# Altium integrated library Analog Devices Data Converters Digital-to-Analog Converters.IntLib: 2231 symbols (part 175 of 181)
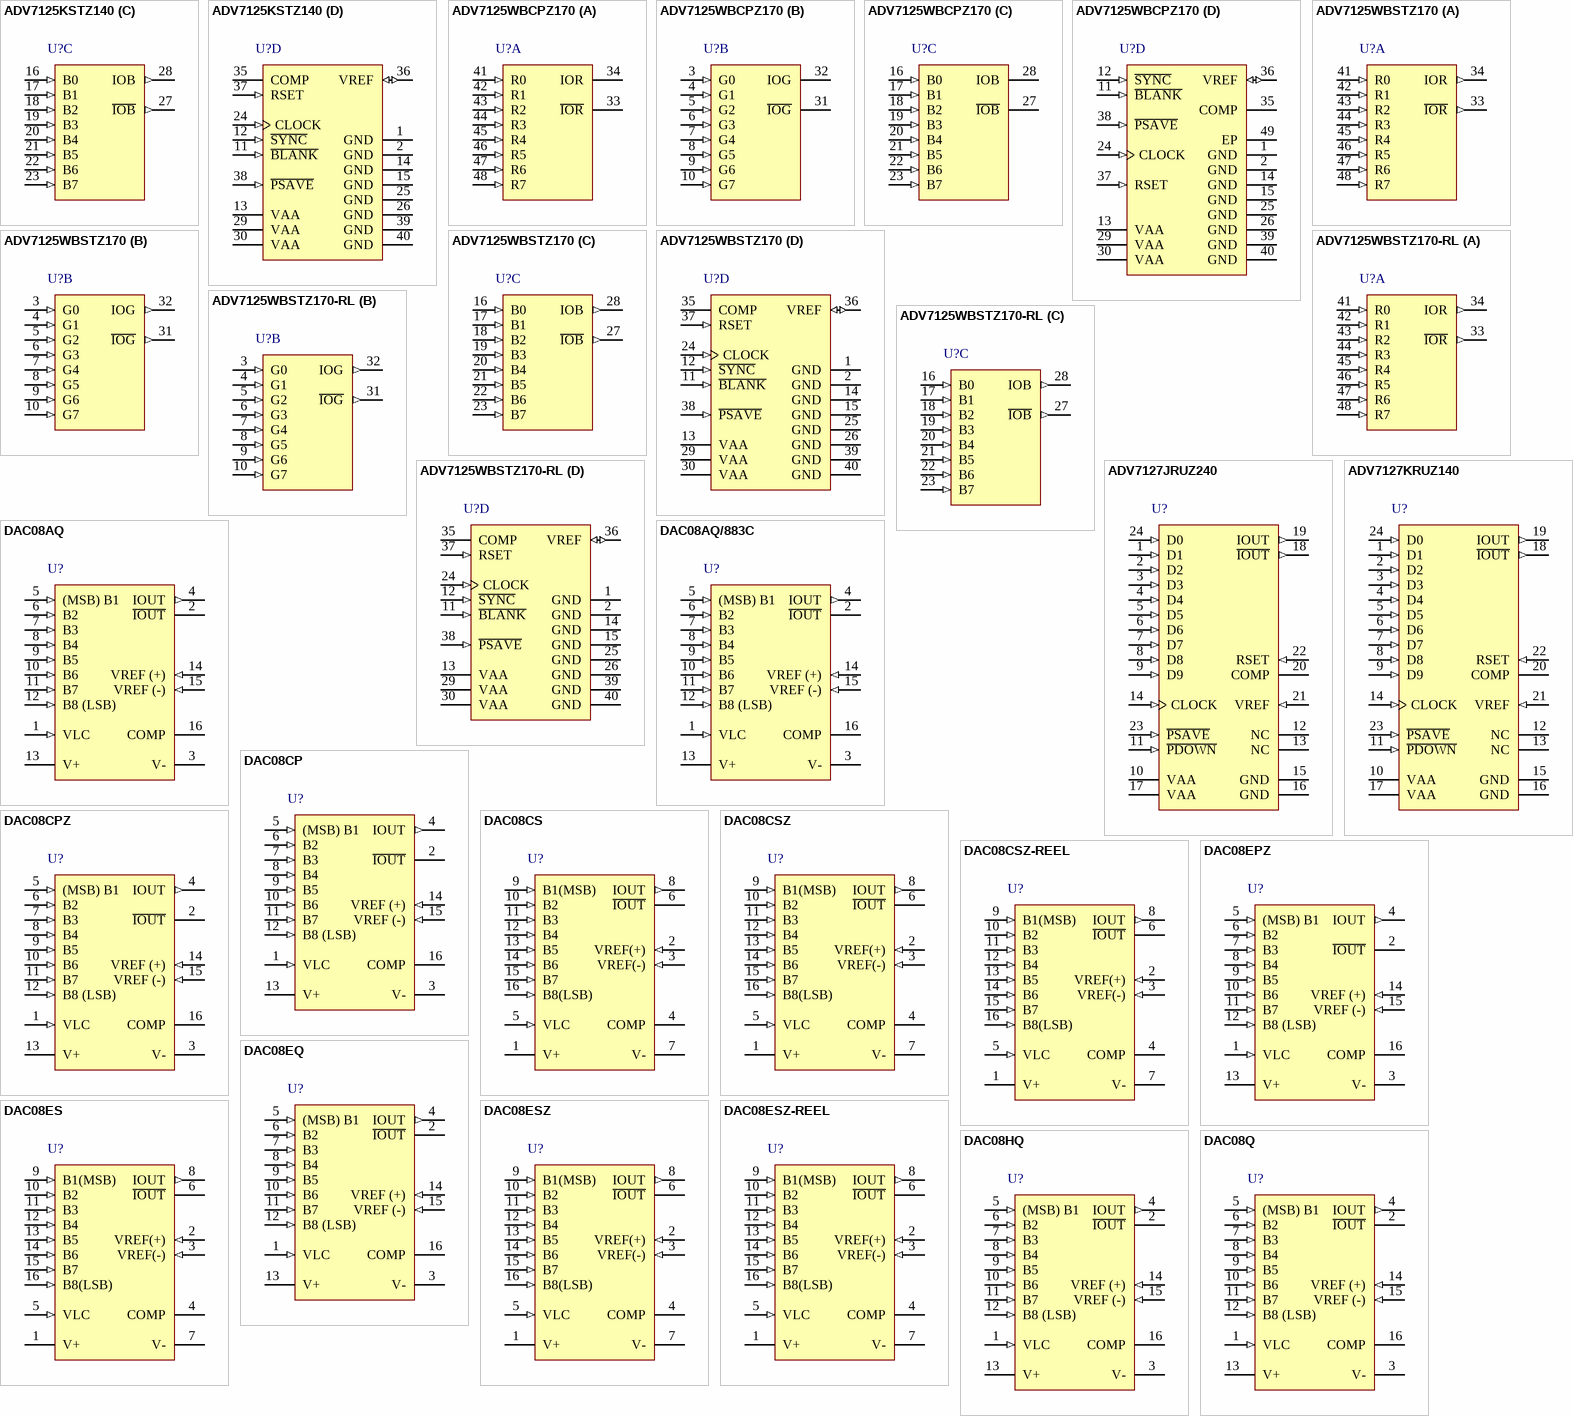
[diagram p288: symbols ADV7125KSTZ140 to DAC08Q]

## ADV7125WBSTZ170-RL
designator U?
3 Channel 8-Bit CMOS High Speed Video Digital-to-Analog Converter, -40 to +85 degC, ST-48, Pb-Free, Reel; Generic Part Number: ADV7125; Manufacturer: Analog Devices; PartNumber: ADV7125WBSTZ170-RL; # DAC Outputs: 3; Max V+: 5.25V; Op Pwr Diss: 485mW; Resolution (Bits): 8; Single Supply: No; DatasheetVersion: Rev.C; PackageVersion: revA; PackageReference: ST-48; PackageDescription: 48-Pin Thin Quad Flat Pack 0.5 mm Pitch; Supplier 1: Mouser; Supplier Part Number 1: N/A; Packing: Reel; RoHS: Y; Mounting Technology: Surface Mount; ComponentLink1Description: Manufacturer URL; ComponentLink1URL: http://www.analog.com/en/index.html; ComponentLink2Description: Datasheet; ComponentLink2URL: http://www.analog.com/static/imported-files/data_sheets/ADV7125.pdf; ComponentLink3Description: Package Specification; ComponentLink3URL: http://www.analog.com/static/imported-files/packages/PKG_PDF/LQFP%28ST%29/ST_48.pdf; ComponentLink4Description: Product URL; ComponentLink4URL: http://www.analog.com/en/digital-to-analog-converters/da-converters/adv7125/products/product.html
footprint ST-48_N (Thin QFP, 48-Leads, Body 7x7mm, Pitch 0.5mm, IPC Medium Density)
footprint ST-48_L (Thin QFP, 48-Leads, Body 7x7mm, Pitch 0.5mm, IPC High Density)
footprint ST-48_M (Thin QFP, 48-Leads, Body 7x7mm, Pitch 0.5mm, IPC Low Density)
part A pins: 33 ~{IOR} (out) "Differential Red, Green, and Blue Current Outputs (High Impedance Current Sources). These RGB video outputs are specified to directly drive RS-343A and RS-170 video levels into a doubly terminated 75 ohm load. If the (See Datasheet)", 34 IOR (out) "Red, Green, and Blue Current Outputs. These high impedance current sources are capable of directly driving a doubly terminated 75 ohm coaxial cable. All three current outputs should have similar output loads whether or not (See Datasheet)", 41 R0 (in) "Red Pixel Data Inputs (TTL Compatible). Pixel data is latched on the rising edge of CLOCK. R0, G0, and B0 are the least significant data bits. Unused pixel data inputs should be connected to either the regular printed (See Datasheet)", 42 R1 (in) "Red Pixel Data Inputs (TTL Compatible). Pixel data is latched on the rising edge of CLOCK. R0, G0, and B0 are the least significant data bits. Unused pixel data inputs should be connected to either the regular printed (See Datasheet)", 43 R2 (in) "Red Pixel Data Inputs (TTL Compatible). Pixel data is latched on the rising edge of CLOCK. R0, G0, and B0 are the least significant data bits. Unused pixel data inputs should be connected to either the regular printed (See Datasheet)", 44 R3 (in) "Red Pixel Data Inputs (TTL Compatible). Pixel data is latched on the rising edge of CLOCK. R0, G0, and B0 are the least significant data bits. Unused pixel data inputs should be connected to either the regular printed (See Datasheet)", 45 R4 (in) "Red Pixel Data Inputs (TTL Compatible). Pixel data is latched on the rising edge of CLOCK. R0, G0, and B0 are the least significant data bits. Unused pixel data inputs should be connected to either the regular printed (See Datasheet)", 46 R5 (in) "Red Pixel Data Inputs (TTL Compatible). Pixel data is latched on the rising edge of CLOCK. R0, G0, and B0 are the least significant data bits. Unused pixel data inputs should be connected to either the regular printed (See Datasheet)", 47 R6 (in) "Red Pixel Data Inputs (TTL Compatible). Pixel data is latched on the rising edge of CLOCK. R0, G0, and B0 are the least significant data bits. Unused pixel data inputs should be connected to either the regular printed (See Datasheet)", 48 R7 (in) "Red Pixel Data Inputs (TTL Compatible). Pixel data is latched on the rising edge of CLOCK. R0, G0, and B0 are the least significant data bits. Unused pixel data inputs should be connected to either the regular printed (See Datasheet)"
part B pins: 3 G0 (in) "Green Pixel Data Inputs (TTL Compatible). Pixel data is latched on the rising edge of CLOCK. R0, G0, and B0 are the least significant data bits. Unused pixel data inputs should be connected to either the regular printed (See Datasheet)", 4 G1 (in) "Green Pixel Data Inputs (TTL Compatible). Pixel data is latched on the rising edge of CLOCK. R0, G0, and B0 are the least significant data bits. Unused pixel data inputs should be connected to either the regular printed (See Datasheet)", 5 G2 (in) "Green Pixel Data Inputs (TTL Compatible). Pixel data is latched on the rising edge of CLOCK. R0, G0, and B0 are the least significant data bits. Unused pixel data inputs should be connected to either the regular printed (See Datasheet)", 6 G3 (in) "Green Pixel Data Inputs (TTL Compatible). Pixel data is latched on the rising edge of CLOCK. R0, G0, and B0 are the least significant data bits. Unused pixel data inputs should be connected to either the regular printed (See Datasheet)", 7 G4 (in) "Green Pixel Data Inputs (TTL Compatible). Pixel data is latched on the rising edge of CLOCK. R0, G0, and B0 are the least significant data bits. Unused pixel data inputs should be connected to either the regular printed (See Datasheet)", 8 G5 (in) "Green Pixel Data Inputs (TTL Compatible). Pixel data is latched on the rising edge of CLOCK. R0, G0, and B0 are the least significant data bits. Unused pixel data inputs should be connected to either the regular printed (See Datasheet)", 9 G6 (in) "Green Pixel Data Inputs (TTL Compatible). Pixel data is latched on the rising edge of CLOCK. R0, G0, and B0 are the least significant data bits. Unused pixel data inputs should be connected to either the regular printed (See Datasheet)", 10 G7 (in) "Green Pixel Data Inputs (TTL Compatible). Pixel data is latched on the rising edge of CLOCK. R0, G0, and B0 are the least significant data bits. Unused pixel data inputs should be connected to either the regular printed (See Datasheet)", 31 ~{IOG} (out) "Differential Red, Green, and Blue Current Outputs (High Impedance Current Sources). These RGB video outputs are specified to directly drive RS-343A and RS-170 video levels into a doubly terminated 75 ohm load. If the (See Datasheet)", 32 IOG (out) "Red, Green, and Blue Current Outputs. These high impedance current sources are capable of directly driving a doubly terminated 75 ohm coaxial cable. All three current outputs should have similar output loads whether or not (See Datasheet)"
part C pins: 16 B0 (in) "Blue Pixel Data Inputs (TTL Compatible). Pixel data is latched on the rising edge of CLOCK. R0, G0, and B0 are the least significant data bits. Unused pixel data inputs should be connected to either the regular printed (See Datasheet)", 17 B1 (in) "Blue Pixel Data Inputs (TTL Compatible). Pixel data is latched on the rising edge of CLOCK. R0, G0, and B0 are the least significant data bits. Unused pixel data inputs should be connected to either the regular printed (See Datasheet)", 18 B2 (in) "Blue Pixel Data Inputs (TTL Compatible). Pixel data is latched on the rising edge of CLOCK. R0, G0, and B0 are the least significant data bits. Unused pixel data inputs should be connected to either the regular printed (See Datasheet)", 19 B3 (in) "Blue Pixel Data Inputs (TTL Compatible). Pixel data is latched on the rising edge of CLOCK. R0, G0, and B0 are the least significant data bits. Unused pixel data inputs should be connected to either the regular printed (See Datasheet)", 20 B4 (in) "Blue Pixel Data Inputs (TTL Compatible). Pixel data is latched on the rising edge of CLOCK. R0, G0, and B0 are the least significant data bits. Unused pixel data inputs should be connected to either the regular printed (See Datasheet)", 21 B5 (in) "Blue Pixel Data Inputs (TTL Compatible). Pixel data is latched on the rising edge of CLOCK. R0, G0, and B0 are the least significant data bits. Unused pixel data inputs should be connected to either the regular printed (See Datasheet)", 22 B6 (in) "Blue Pixel Data Inputs (TTL Compatible). Pixel data is latched on the rising edge of CLOCK. R0, G0, and B0 are the least significant data bits. Unused pixel data inputs should be connected to either the regular printed (See Datasheet)", 23 B7 (in) "Blue Pixel Data Inputs (TTL Compatible). Pixel data is latched on the rising edge of CLOCK. R0, G0, and B0 are the least significant data bits. Unused pixel data inputs should be connected to either the regular printed (See Datasheet)", 27 ~{IOB} (out) "Differential Red, Green, and Blue Current Outputs (High Impedance Current Sources). These RGB video outputs are specified to directly drive RS-343A and RS-170 video levels into a doubly terminated 75 ohm load. If the (See Datasheet)", 28 IOB (out) "Red, Green, and Blue Current Outputs. These high impedance current sources are capable of directly driving a doubly terminated 75 ohm coaxial cable. All three current outputs should have similar output loads whether or not (See Datasheet)"
part D pins: 1 GND (power) "Ground. All GND pins must be connected.", 2 GND (power) "Ground. All GND pins must be connected.", 11 ~{BLANK} (in) "Composite Blank Control Input (TTL Compatible). A Logic 0 on this control input drives the analog outputs, IOR, IOB, and IOG, to the blanking level. The B\L\A\N\K\ signal is latched on the rising edge of CLOCK. While (See Datasheet)", 12 ~{SYNC} (in) "Composite Sync Control Input (TTL Compatible). A Logic 0 on the S\Y\N\C\ input switches off a 40 IRE current source. This is internally connected to the IOG analog output. S\Y\N\C\ does not override any other control or data (See Datasheet)", 13 VAA (power) "Analog Power Supply (5 V +/- 5%). All VAA pins on the ADV7125 must be connected.", 14 GND (power) "Ground. All GND pins must be connected.", 15 GND (power) "Ground. All GND pins must be connected.", 24 CLOCK (in) "Clock Input (TTL Compatible). The rising edge of CLOCK latches the R0 to R7, G0 to G7, B0 to B7, S\Y\N\C\, and B\L\A\N\K\ pixel and control inputs. It is typically the pixel clock rate of the video system. CLOCK should be (See Datasheet)", 25 GND (power) "Ground. All GND pins must be connected.", 26 GND (power) "Ground. All GND pins must be connected.", 29 VAA (power) "Analog Power Supply (5 V +/- 5%). All VAA pins on the ADV7125 must be connected.", 30 VAA (power) "Analog Power Supply (5 V +/- 5%). All VAA pins on the ADV7125 must be connected.", 35 COMP "Compensation Pin. This is a compensation pin for the internal reference amplifier. A 0.1 uF ceramic capacitor must be connected between COMP and VAA.", 36 VREF (io) "Voltage Reference Input for DACs or Voltage Reference Output (1.235 V).", 37 RSET (in) "A resistor (RSET) connected between this pin and GND controls the magnitude of the full-scale video signal. Note that the IRE relationships are maintained, regardless of the full-scale output current. The relationship (See Datasheet)", 38 ~{PSAVE} (in) "Power Save Control Pin. Reduced power consumption is available on the ADV7125 when this pin is active.", 39 GND (power) "Ground. All GND pins must be connected.", 40 GND (power) "Ground. All GND pins must be connected."

## ADV7127JRUZ240
designator U?
Single 10-Bit CMOS High Speed Video Digital-to-Analog Converter, 240 MHz, 0 to +70 degC, RU-24, Pb-Free, Tube; Generic Part Number: ADV7127; Manufacturer: Analog Devices; PartNumber: ADV7127JRUZ240; # DAC Outputs: 1; Max V+: 5.25V; Op Pwr Diss: 310mW; Resolution (Bits): 10; Settling Time: 15ns; Single Supply: Yes; DatasheetVersion: Rev.0; PackageVersion: 2002; PackageReference: RU-24; PackageDescription: 24-Lead Thin Shrink Small Outline Package [TSSOP]; Supplier 1: Digi-Key; Supplier Part Number 1: ADV7127JRUZ240-ND; Supplier 2: Farnell; Supplier Part Number 2: 1438735; Supplier 3: Newark; Supplier Part Number 3: 15P0590; Supplier 4: Mouser; Supplier Part Number 4: 584-ADV7127JRUZ240; Packing: Tube; RoHS: Y; Mounting Technology: Surface Mount; Code_JEDEC: MO-153-AD; ComponentLink1Description: Manufacturer URL; ComponentLink1URL: http://www.analog.com/en/index.html; ComponentLink2Description: Datasheet; ComponentLink2URL: http://www.analog.com/static/imported-files/data_sheets/ADV7127.pdf; ComponentLink3Description: Package Specification; ComponentLink3URL: http://www.analog.com/static/imported-files/packages/380523655245964505593671154107510036154RU24.pdf; ComponentLink4Description: Product URL; ComponentLink4URL: http://www.analog.com/en/digital-to-analog-converters/da-converters/adv7127/products/product.html
footprint RU-24_N (TSOP, 24-Leads, Body 7.8x4.4mm, Pitch 0.65mm, IPC Medium Density)
footprint RU-24_L (TSOP, 24-Leads, Body 7.8x4.4mm, Pitch 0.65mm, IPC High Density)
footprint RU-24_M (TSOP, 24-Leads, Body 7.8x4.4mm, Pitch 0.65mm, IPC Low Density)
pins: 1 D1 (in) "Data Input (TTL Compatible). Data is latched on the rising edge of CLOCK. Unused data inputs should be connected to either the regular PCB power or ground plane.", 2 D2 (in) "Data Input (TTL Compatible). Data is latched on the rising edge of CLOCK. Unused data inputs should be connected to either the regular PCB power or ground plane.", 3 D3 (in) "Data Input (TTL Compatible). Data is latched on the rising edge of CLOCK. Unused data inputs should be connected to either the regular PCB power or ground plane.", 4 D4 (in) "Data Input (TTL Compatible). Data is latched on the rising edge of CLOCK. Unused data inputs should be connected to either the regular PCB power or ground plane.", 5 D5 (in) "Data Input (TTL Compatible). Data is latched on the rising edge of CLOCK. Unused data inputs should be connected to either the regular PCB power or ground plane.", 6 D6 (in) "Data Input (TTL Compatible). Data is latched on the rising edge of CLOCK. Unused data inputs should be connected to either the regular PCB power or ground plane.", 7 D7 (in) "Data Input (TTL Compatible). Data is latched on the rising edge of CLOCK. Unused data inputs should be connected to either the regular PCB power or ground plane.", 8 D8 (in) "Data Input (TTL Compatible). Data is latched on the rising edge of CLOCK. Unused data inputs should be connected to either the regular PCB power or ground plane.", 9 D9 (in) "Data Input (TTL Compatible). Data is latched on the rising edge of CLOCK. Unused data inputs should be connected to either the regular PCB power or ground plane.", 10 VAA (power) "Analog Power Supply (5 V +/- 5%). All VAA pins on the ADV7127 must be connected.", 11 ~{PDOWN} (in) "Power-Down Control Pin (24-Lead TSSOP Only). The ADV7127 completely powers down, including the voltage reference circuit, when P\D\O\W\N\ is low.", 12 NC "No connect", 13 NC "No connect", 14 CLOCK (in) "Clock Input (TTL Compatible). The rising edge of CLOCK latches the R0-R9, G0-G9, B0-B9, S\Y\N\C\ and B\L\A\N\K\ pixel and control inputs. It is typically the pixel clock rate of the video system. CLOCK should be driven by a (See Datasheet)", 15 GND (power) "Ground. All GND pins must be connected.", 16 GND (power) "Ground. All GND pins must be connected.", 17 VAA (power) "Analog Power Supply (5 V +/- 5%). All VAA pins on the ADV7127 must be connected.", 18 ~{IOUT} (out) "Differential Current Output. Capable of directly driving a doubly terminated 75 ohm load. If not required, this output should be tied to ground.", 19 IOUT (out) "Current Output. This high impedance current source is capable of directly driving a doubly terminated 75 ohm coaxial cable.", 20 COMP "Compensation Pin. This is a compensation pin for the internal reference amplifier. A 0.1 uF ceramic capacitor must be connected between COMP and VAA.", 21 VREF (in) "Voltage Reference Input. An external 1.23 V voltage reference must be connected to this pin. The use of an external resistor divider network is not recommended. A 0.1 uF decoupling ceramic capacitor should be connected (See Datasheet)", 22 RSET (in) "Full-Scale Adjust Control. A resistor (RSET) connected between this pin and GND controls the magnitude of the full-scale video signal. Note that the IRE relationships are maintained, regardless of the full-scale output (See Datasheet)", 23 ~{PSAVE} (in) "Power Save Control Pin. The part is put into standby mode when P\S\A\V\E\ is low. The internal voltage reference circuit is still active on the TSSOP in this case.", 24 D0 (in) "Data Input (TTL Compatible). Data is latched on the rising edge of CLOCK. D0 is the least significant data bit. Unused data inputs should be connected to either the regular PCB power or ground plane."

## ADV7127KRUZ140
designator U?
Single 10-Bit CMOS High Speed Video Digital-to-Analog Converter, 240 MHz, 0 to +70 degC, RU-24, Pb-Free, Tube; Generic Part Number: ADV7127; Manufacturer: Analog Devices; PartNumber: ADV7127KRUZ140; # DAC Outputs: 1; Max V+: 5.25V; Op Pwr Diss: 310mW; Resolution (Bits): 10; Settling Time: 15ns; Single Supply: Yes; DatasheetVersion: Rev.0; PackageVersion: 2002; PackageReference: RU-24; PackageDescription: 24-Lead Thin Shrink Small Outline Package [TSSOP]; Supplier 1: Digi-Key; Supplier Part Number 1: ADV7127KRUZ140-ND; Supplier 2: Newark; Supplier Part Number 2: 82H2830; Supplier 3: Mouser; Supplier Part Number 3: 584-ADV7127KRUZ140; Packing: Tube; RoHS: Y; Mounting Technology: Surface Mount; Code_JEDEC: MO-153-AD; ComponentLink1Description: Manufacturer URL; ComponentLink1URL: http://www.analog.com/en/index.html; ComponentLink2Description: Datasheet; ComponentLink2URL: http://www.analog.com/static/imported-files/data_sheets/ADV7127.pdf; ComponentLink3Description: Package Specification; ComponentLink3URL: http://www.analog.com/static/imported-files/packages/380523655245964505593671154107510036154RU24.pdf; ComponentLink4Description: Product URL; ComponentLink4URL: http://www.analog.com/en/digital-to-analog-converters/da-converters/adv7127/products/product.html
footprint RU-24_N (TSOP, 24-Leads, Body 7.8x4.4mm, Pitch 0.65mm, IPC Medium Density)
footprint RU-24_L (TSOP, 24-Leads, Body 7.8x4.4mm, Pitch 0.65mm, IPC High Density)
footprint RU-24_M (TSOP, 24-Leads, Body 7.8x4.4mm, Pitch 0.65mm, IPC Low Density)
pins: 1 D1 (in) "Data Input (TTL Compatible). Data is latched on the rising edge of CLOCK. Unused data inputs should be connected to either the regular PCB power or ground plane.", 2 D2 (in) "Data Input (TTL Compatible). Data is latched on the rising edge of CLOCK. Unused data inputs should be connected to either the regular PCB power or ground plane.", 3 D3 (in) "Data Input (TTL Compatible). Data is latched on the rising edge of CLOCK. Unused data inputs should be connected to either the regular PCB power or ground plane.", 4 D4 (in) "Data Input (TTL Compatible). Data is latched on the rising edge of CLOCK. Unused data inputs should be connected to either the regular PCB power or ground plane.", 5 D5 (in) "Data Input (TTL Compatible). Data is latched on the rising edge of CLOCK. Unused data inputs should be connected to either the regular PCB power or ground plane.", 6 D6 (in) "Data Input (TTL Compatible). Data is latched on the rising edge of CLOCK. Unused data inputs should be connected to either the regular PCB power or ground plane.", 7 D7 (in) "Data Input (TTL Compatible). Data is latched on the rising edge of CLOCK. Unused data inputs should be connected to either the regular PCB power or ground plane.", 8 D8 (in) "Data Input (TTL Compatible). Data is latched on the rising edge of CLOCK. Unused data inputs should be connected to either the regular PCB power or ground plane.", 9 D9 (in) "Data Input (TTL Compatible). Data is latched on the rising edge of CLOCK. Unused data inputs should be connected to either the regular PCB power or ground plane.", 10 VAA (power) "Analog Power Supply (5 V +/- 5%). All VAA pins on the ADV7127 must be connected.", 11 ~{PDOWN} (in) "Power-Down Control Pin (24-Lead TSSOP Only). The ADV7127 completely powers down, including the voltage reference circuit, when P\D\O\W\N\ is low.", 12 NC "No connect", 13 NC "No connect", 14 CLOCK (in) "Clock Input (TTL Compatible). The rising edge of CLOCK latches the R0-R9, G0-G9, B0-B9, S\Y\N\C\ and B\L\A\N\K\ pixel and control inputs. It is typically the pixel clock rate of the video system. CLOCK should be driven by a (See Datasheet)", 15 GND (power) "Ground. All GND pins must be connected.", 16 GND (power) "Ground. All GND pins must be connected.", 17 VAA (power) "Analog Power Supply (5 V +/- 5%). All VAA pins on the ADV7127 must be connected.", 18 ~{IOUT} (out) "Differential Current Output. Capable of directly driving a doubly terminated 75 ohm load. If not required, this output should be tied to ground.", 19 IOUT (out) "Current Output. This high impedance current source is capable of directly driving a doubly terminated 75 ohm coaxial cable.", 20 COMP "Compensation Pin. This is a compensation pin for the internal reference amplifier. A 0.1 uF ceramic capacitor must be connected between COMP and VAA.", 21 VREF (in) "Voltage Reference Input. An external 1.23 V voltage reference must be connected to this pin. The use of an external resistor divider network is not recommended. A 0.1 uF decoupling ceramic capacitor should be connected (See Datasheet)", 22 RSET (in) "Full-Scale Adjust Control. A resistor (RSET) connected between this pin and GND controls the magnitude of the full-scale video signal. Note that the IRE relationships are maintained, regardless of the full-scale output (See Datasheet)", 23 ~{PSAVE} (in) "Power Save Control Pin. The part is put into standby mode when P\S\A\V\E\ is low. The internal voltage reference circuit is still active on the TSSOP in this case.", 24 D0 (in) "Data Input (TTL Compatible). Data is latched on the rising edge of CLOCK. D0 is the least significant data bit. Unused data inputs should be connected to either the regular PCB power or ground plane."

## DAC08AQ
designator U?
Single 8-Bit Multiplying Digital-to-Analog Converter with Universal Digital Logic Interface, -55 to +125 degC, Q-16, Tube; Generic Part Number: DAC08; Manufacturer: Analog Devices; PartNumber: DAC08AQ; # DAC Outputs: 1; Max V+: 18V; Op Pwr Diss: 33mW; Resolution (Bits): 8; Settling Time: 85ns; Single Supply: No; DatasheetVersion: Rev.C; PackageVersion: 1996; PackageReference: Q-16; PackageDescription: DIP, 16-Pin, Skinny Dual In-line Package, 300mil Wide, Pitch 2.54 mm; Supplier 1: Digi-Key; Supplier Part Number 1: DAC08AQ-ND; Supplier 2: Newark; Supplier Part Number 2: 05F7952; Supplier 3: Mouser; Supplier Part Number 3: 584-DAC08AQ; Packing: Tube; RoHS: N; Mounting Technology: Through Hole; ComponentLink1Description: Manufacturer URL; ComponentLink1URL: http://www.analog.com/en/index.html; ComponentLink2Description: Datasheet; ComponentLink2URL: http://www.analog.com/static/imported-files/data_sheets/DAC08.pdf; ComponentLink3Description: Package Specification; ComponentLink3URL: http://www.analog.com/static/imported-files/packages/54083157002221Q_16.pdf; ComponentLink4Description: Product URL; ComponentLink4URL: http://www.analog.com/en/digital-to-analog-converters/da-converters/dac08/products/product.html
footprint Q-16 (DIP, 16-Leads, Row Spacing 7.62mm, Pitch 2.54mm, Body 20.07x6.73mm)
pins: 1 VLC (in), 2 ~{IOUT}, 3 V- (power), 4 IOUT (out), 5 (MSB) B1 (in), 6 B2 (in), 7 B3 (in), 8 B4 (in), 9 B5 (in), 10 B6 (in), 11 B7 (in), 12 B8 (LSB) (in), 13 V+ (power), 14 VREF (+) (in), 15 VREF (-) (in), 16 COMP

## DAC08AQ/883C
designator U?
Single 8-Bit Multiplying Digital-to-Analog Converter with Universal Digital Logic Interface, -55 to +125 degC, Q-16, Tube; Generic Part Number: DAC08; Manufacturer: Analog Devices; PartNumber: DAC08AQ/883C; # DAC Outputs: 1; Max V+: 18V; Op Pwr Diss: 33mW; Resolution (Bits): 8; Settling Time: 85ns; Single Supply: No; DatasheetVersion: Rev.C; PackageVersion: 1996; PackageReference: Q-16; PackageDescription: DIP, 16-Pin, Skinny Dual In-line Package, 300mil Wide, Pitch 2.54 mm; Supplier 1: Mouser; Supplier Part Number 1: 584-DAC08AQ883C; Packing: Tube; RoHS: N; Mounting Technology: Through Hole; ComponentLink1Description: Manufacturer URL; ComponentLink1URL: http://www.analog.com/en/index.html; ComponentLink2Description: Datasheet; ComponentLink2URL: http://www.analog.com/static/imported-files/data_sheets/DAC08.pdf; ComponentLink3Description: Package Specification; ComponentLink3URL: http://www.analog.com/static/imported-files/packages/54083157002221Q_16.pdf; ComponentLink4Description: Product URL; ComponentLink4URL: http://www.analog.com/en/digital-to-analog-converters/da-converters/dac08/products/product.html
footprint Q-16 (DIP, 16-Leads, Row Spacing 7.62mm, Pitch 2.54mm, Body 20.07x6.73mm)
pins: 1 VLC (in), 2 ~{IOUT}, 3 V- (power), 4 IOUT (out), 5 (MSB) B1 (in), 6 B2 (in), 7 B3 (in), 8 B4 (in), 9 B5 (in), 10 B6 (in), 11 B7 (in), 12 B8 (LSB) (in), 13 V+ (power), 14 VREF (+) (in), 15 VREF (-) (in), 16 COMP

## DAC08CP
designator U?
Single 8-Bit Multiplying Digital-to-Analog Converter with Universal Digital Logic Interface, -40 to +85 degC, N-16, Tube; Generic Part Number: DAC08; Manufacturer: Analog Devices; PartNumber: DAC08CP; # DAC Outputs: 1; Max V+: 18V; Op Pwr Diss: 33mW; Resolution (Bits): 8; Settling Time: 85ns; Single Supply: No; DatasheetVersion: Rev.C; PackageVersion: 070706-A; PackageReference: N-16; PackageDescription: 16-Lead Plastic Dual In-Line Package [PDIP] Narrow Body; Supplier 1: Digi-Key; Supplier Part Number 1: DAC08CP-ND; Supplier 2: Mouser; Supplier Part Number 2: 584-DAC08CP; Packing: Tube; RoHS: N; Mounting Technology: Through Hole; Code_JEDEC: MS-001; ComponentLink1Description: Manufacturer URL; ComponentLink1URL: http://www.analog.com/en/index.html; ComponentLink2Description: Datasheet; ComponentLink2URL: http://www.analog.com/static/imported-files/data_sheets/DAC08.pdf; ComponentLink3Description: Package Specification; ComponentLink3URL: http://www.analog.com/static/imported-files/packages/44768431550332N_16.pdf; ComponentLink4Description: Product URL; ComponentLink4URL: http://www.analog.com/en/digital-to-analog-converters/da-converters/dac08/products/product.html
footprint N-16 (DIP, 16-Leads, Row Spacing 7.62mm, Pitch 2.54mm, Body 20.1x6.6mm)
pins: 1 VLC (in), 2 ~{IOUT}, 3 V- (power), 4 IOUT (out), 5 (MSB) B1 (in), 6 B2 (in), 7 B3 (in), 8 B4 (in), 9 B5 (in), 10 B6 (in), 11 B7 (in), 12 B8 (LSB) (in), 13 V+ (power), 14 VREF (+) (in), 15 VREF (-) (in), 16 COMP

## DAC08CPZ
designator U?
Single 8-Bit Multiplying Digital-to-Analog Converter with Universal Digital Logic Interface, -40 to +85 degC, N-16, Pb-Free, Tube; Generic Part Number: DAC08; Manufacturer: Analog Devices; PartNumber: DAC08CPZ; # DAC Outputs: 1; Max V+: 18V; Op Pwr Diss: 33mW; Resolution (Bits): 8; Settling Time: 85ns; Single Supply: No; DatasheetVersion: Rev.C; PackageVersion: 070706-A; PackageReference: N-16; PackageDescription: 16-Lead Plastic Dual In-Line Package [PDIP] Narrow Body; Supplier 1: Digi-Key; Supplier Part Number 1: DAC08CPZ-ND; Supplier 2: Farnell; Supplier Part Number 2: 9604448; Supplier 3: Newark; Supplier Part Number 3: 59K7898; Supplier 4: Mouser; Supplier Part Number 4: 584-DAC08CPZ; Packing: Tube; RoHS: Y; Mounting Technology: Through Hole; Code_JEDEC: MS-001; ComponentLink1Description: Manufacturer URL; ComponentLink1URL: http://www.analog.com/en/index.html; ComponentLink2Description: Datasheet; ComponentLink2URL: http://www.analog.com/static/imported-files/data_sheets/DAC08.pdf; ComponentLink3Description: Package Specification; ComponentLink3URL: http://www.analog.com/static/imported-files/packages/44768431550332N_16.pdf; ComponentLink4Description: Product URL; ComponentLink4URL: http://www.analog.com/en/digital-to-analog-converters/da-converters/dac08/products/product.html
footprint N-16 (DIP, 16-Leads, Row Spacing 7.62mm, Pitch 2.54mm, Body 20.1x6.6mm)
pins: 1 VLC (in), 2 ~{IOUT}, 3 V- (power), 4 IOUT (out), 5 (MSB) B1 (in), 6 B2 (in), 7 B3 (in), 8 B4 (in), 9 B5 (in), 10 B6 (in), 11 B7 (in), 12 B8 (LSB) (in), 13 V+ (power), 14 VREF (+) (in), 15 VREF (-) (in), 16 COMP

## DAC08CS
designator U?
Single 8-Bit Multiplying Digital-to-Analog Converter with Universal Digital Logic Interface, -40 to +85 degC, R-16, Tube; Generic Part Number: DAC08; Manufacturer: Analog Devices; PartNumber: DAC08CS; # DAC Outputs: 1; Max V+: 18V; Op Pwr Diss: 33mW; Resolution (Bits): 8; Settling Time: 85ns; Single Supply: No; DatasheetVersion: Rev.C; PackageVersion: 060606-A; PackageReference: R-16; PackageDescription: 16-Lead Standard Small Outline Package [SOIC_N] Narrow Body; Supplier 1: Digi-Key; Supplier Part Number 1: DAC08CS-ND; Supplier 2: Mouser; Supplier Part Number 2: 584-DAC08CS; Packing: Tube; RoHS: N; Mounting Technology: Surface Mount; Code_JEDEC: MS-012-AC; ComponentLink1Description: Manufacturer URL; ComponentLink1URL: http://www.analog.com/en/index.html; ComponentLink2Description: Datasheet; ComponentLink2URL: http://www.analog.com/static/imported-files/data_sheets/DAC08.pdf; ComponentLink3Description: Package Specification; ComponentLink3URL: http://www.analog.com/static/imported-files/packages/PKG_PDF/SOIC_Narrow%20(R)/R_16.pdf; ComponentLink4Description: Product URL; ComponentLink4URL: http://www.analog.com/en/digital-to-analog-converters/da-converters/dac08/products/product.html
footprint R-16_N (SOIC, 16-Leads, Body 9.9x3.9mm, Pitch 1.27mm, IPC Medium Density)
footprint R-16_L (SOIC, 16-Leads, Body 9.9x3.9mm, Pitch 1.27mm, IPC High Density)
footprint R-16_M (SOIC, 16-Leads, Body 9.9x3.9mm, Pitch 1.27mm, IPC Low Density)
pins: 1 V+ (power), 2 VREF(+) (in), 3 VREF(-) (in), 4 COMP, 5 VLC (in), 6 ~{IOUT}, 7 V- (power), 8 IOUT (out), 9 B1(MSB) (in), 10 B2 (in), 11 B3 (in), 12 B4 (in), 13 B5 (in), 14 B6 (in), 15 B7 (in), 16 B8(LSB) (in)

## DAC08CSZ
designator U?
Single 8-Bit Multiplying Digital-to-Analog Converter with Universal Digital Logic Interface, -40 to +85 degC, R-16, Pb-Free, Tube; Generic Part Number: DAC08; Manufacturer: Analog Devices; PartNumber: DAC08CSZ; # DAC Outputs: 1; Max V+: 18V; Op Pwr Diss: 33mW; Resolution (Bits): 8; Settling Time: 85ns; Single Supply: No; DatasheetVersion: Rev.C; PackageVersion: 060606-A; PackageReference: R-16; PackageDescription: 16-Lead Standard Small Outline Package [SOIC_N] Narrow Body; Supplier 1: Digi-Key; Supplier Part Number 1: DAC08CSZ-ND; Supplier 2: Farnell; Supplier Part Number 2: 9426116; Supplier 3: Newark; Supplier Part Number 3: 19M1020; Supplier 4: Mouser; Supplier Part Number 4: 584-DAC08CSZ; Packing: Tube; RoHS: Y; Mounting Technology: Surface Mount; Code_JEDEC: MS-012-AC; ComponentLink1Description: Manufacturer URL; ComponentLink1URL: http://www.analog.com/en/index.html; ComponentLink2Description: Datasheet; ComponentLink2URL: http://www.analog.com/static/imported-files/data_sheets/DAC08.pdf; ComponentLink3Description: Package Specification; ComponentLink3URL: http://www.analog.com/static/imported-files/packages/PKG_PDF/SOIC_Narrow%20(R)/R_16.pdf; ComponentLink4Description: Product URL; ComponentLink4URL: http://www.analog.com/en/digital-to-analog-converters/da-converters/dac08/products/product.html
footprint R-16_N (SOIC, 16-Leads, Body 9.9x3.9mm, Pitch 1.27mm, IPC Medium Density)
footprint R-16_L (SOIC, 16-Leads, Body 9.9x3.9mm, Pitch 1.27mm, IPC High Density)
footprint R-16_M (SOIC, 16-Leads, Body 9.9x3.9mm, Pitch 1.27mm, IPC Low Density)
pins: 1 V+ (power), 2 VREF(+) (in), 3 VREF(-) (in), 4 COMP, 5 VLC (in), 6 ~{IOUT}, 7 V- (power), 8 IOUT (out), 9 B1(MSB) (in), 10 B2 (in), 11 B3 (in), 12 B4 (in), 13 B5 (in), 14 B6 (in), 15 B7 (in), 16 B8(LSB) (in)

## DAC08CSZ-REEL
designator U?
Single 8-Bit Multiplying Digital-to-Analog Converter with Universal Digital Logic Interface, -40 to +85 degC, R-16, Pb-Free, Reel; Generic Part Number: DAC08; Manufacturer: Analog Devices; PartNumber: DAC08CSZ-REEL; # DAC Outputs: 1; Max V+: 18V; Op Pwr Diss: 33mW; Resolution (Bits): 8; Settling Time: 85ns; Single Supply: No; DatasheetVersion: Rev.C; PackageVersion: 060606-A; PackageReference: R-16; PackageDescription: 16-Lead Standard Small Outline Package [SOIC_N] Narrow Body; Supplier 1: Digi-Key; Supplier Part Number 1: DAC08CSZ-REELTR-ND; Supplier 2: Digi-Key; Supplier Part Number 2: DAC08CSZ-REELCT-ND; Supplier 3: Digi-Key; Supplier Part Number 3: DAC08CSZ-REELDKR-ND; Supplier 4: Newark; Supplier Part Number 4: 59K7900; Supplier 5: Mouser; Supplier Part Number 5: 584-DAC08CSZ-R; Packing: Reel; RoHS: Y; Mounting Technology: Surface Mount; Code_JEDEC: MS-012-AC; ComponentLink1Description: Manufacturer URL; ComponentLink1URL: http://www.analog.com/en/index.html; ComponentLink2Description: Datasheet; ComponentLink2URL: http://www.analog.com/static/imported-files/data_sheets/DAC08.pdf; ComponentLink3Description: Package Specification; ComponentLink3URL: http://www.analog.com/static/imported-files/packages/PKG_PDF/SOIC_Narrow%20(R)/R_16.pdf; ComponentLink4Description: Product URL; ComponentLink4URL: http://www.analog.com/en/digital-to-analog-converters/da-converters/dac08/products/product.html
footprint R-16_N (SOIC, 16-Leads, Body 9.9x3.9mm, Pitch 1.27mm, IPC Medium Density)
footprint R-16_L (SOIC, 16-Leads, Body 9.9x3.9mm, Pitch 1.27mm, IPC High Density)
footprint R-16_M (SOIC, 16-Leads, Body 9.9x3.9mm, Pitch 1.27mm, IPC Low Density)
pins: 1 V+ (power), 2 VREF(+) (in), 3 VREF(-) (in), 4 COMP, 5 VLC (in), 6 ~{IOUT}, 7 V- (power), 8 IOUT (out), 9 B1(MSB) (in), 10 B2 (in), 11 B3 (in), 12 B4 (in), 13 B5 (in), 14 B6 (in), 15 B7 (in), 16 B8(LSB) (in)

## DAC08EPZ
designator U?
Single 8-Bit Multiplying Digital-to-Analog Converter with Universal Digital Logic Interface, 0 to +70 degC, N-16, Pb-Free, Tube; Generic Part Number: DAC08; Manufacturer: Analog Devices; PartNumber: DAC08EPZ; # DAC Outputs: 1; Max V+: 18V; Op Pwr Diss: 33mW; Resolution (Bits): 8; Settling Time: 85ns; Single Supply: No; DatasheetVersion: Rev.C; PackageVersion: 070706-A; PackageReference: N-16; PackageDescription: 16-Lead Plastic Dual In-Line Package [PDIP] Narrow Body; Supplier 1: Digi-Key; Supplier Part Number 1: DAC08EPZ-ND; Supplier 2: Newark; Supplier Part Number 2: 19M1021; Supplier 3: Mouser; Supplier Part Number 3: 584-DAC08EPZ; Packing: Tube; RoHS: Y; Mounting Technology: Through Hole; Code_JEDEC: MS-001; ComponentLink1Description: Manufacturer URL; ComponentLink1URL: http://www.analog.com/en/index.html; ComponentLink2Description: Datasheet; ComponentLink2URL: http://www.analog.com/static/imported-files/data_sheets/DAC08.pdf; ComponentLink3Description: Package Specification; ComponentLink3URL: http://www.analog.com/static/imported-files/packages/44768431550332N_16.pdf; ComponentLink4Description: Product URL; ComponentLink4URL: http://www.analog.com/en/digital-to-analog-converters/da-converters/dac08/products/product.html
footprint N-16 (DIP, 16-Leads, Row Spacing 7.62mm, Pitch 2.54mm, Body 20.1x6.6mm)
pins: 1 VLC (in), 2 ~{IOUT}, 3 V- (power), 4 IOUT (out), 5 (MSB) B1 (in), 6 B2 (in), 7 B3 (in), 8 B4 (in), 9 B5 (in), 10 B6 (in), 11 B7 (in), 12 B8 (LSB) (in), 13 V+ (power), 14 VREF (+) (in), 15 VREF (-) (in), 16 COMP

## DAC08EQ
designator U?
Single 8-Bit Multiplying Digital-to-Analog Converter with Universal Digital Logic Interface, 0 to +70 degC, Q-16, Tube; Generic Part Number: DAC08; Manufacturer: Analog Devices; PartNumber: DAC08EQ; # DAC Outputs: 1; Max V+: 18V; Op Pwr Diss: 33mW; Resolution (Bits): 8; Settling Time: 85ns; Single Supply: No; DatasheetVersion: Rev.C; PackageVersion: 1996; PackageReference: Q-16; PackageDescription: DIP, 16-Pin, Skinny Dual In-line Package, 300mil Wide, Pitch 2.54 mm; Supplier 1: Digi-Key; Supplier Part Number 1: DAC08EQ-ND; Supplier 2: Newark; Supplier Part Number 2: 05F7956; Supplier 3: Mouser; Supplier Part Number 3: 584-DAC08EQ; Packing: Tube; RoHS: N; Mounting Technology: Through Hole; ComponentLink1Description: Manufacturer URL; ComponentLink1URL: http://www.analog.com/en/index.html; ComponentLink2Description: Datasheet; ComponentLink2URL: http://www.analog.com/static/imported-files/data_sheets/DAC08.pdf; ComponentLink3Description: Package Specification; ComponentLink3URL: http://www.analog.com/static/imported-files/packages/54083157002221Q_16.pdf; ComponentLink4Description: Product URL; ComponentLink4URL: http://www.analog.com/en/digital-to-analog-converters/da-converters/dac08/products/product.html
footprint Q-16 (DIP, 16-Leads, Row Spacing 7.62mm, Pitch 2.54mm, Body 20.07x6.73mm)
pins: 1 VLC (in), 2 ~{IOUT}, 3 V- (power), 4 IOUT (out), 5 (MSB) B1 (in), 6 B2 (in), 7 B3 (in), 8 B4 (in), 9 B5 (in), 10 B6 (in), 11 B7 (in), 12 B8 (LSB) (in), 13 V+ (power), 14 VREF (+) (in), 15 VREF (-) (in), 16 COMP

## DAC08ES
designator U?
Single 8-Bit Multiplying Digital-to-Analog Converter with Universal Digital Logic Interface, 0 to +70 degC, R-16, Tube; Generic Part Number: DAC08; Manufacturer: Analog Devices; PartNumber: DAC08ES; # DAC Outputs: 1; Max V+: 18V; Op Pwr Diss: 33mW; Resolution (Bits): 8; Settling Time: 85ns; Single Supply: No; DatasheetVersion: Rev.C; PackageVersion: 060606-A; PackageReference: R-16; PackageDescription: 16-Lead Standard Small Outline Package [SOIC_N] Narrow Body; Supplier 1: Digi-Key; Supplier Part Number 1: DAC08ES-ND; Supplier 2: Mouser; Supplier Part Number 2: 584-DAC08ES; Packing: Tube; RoHS: N; Mounting Technology: Surface Mount; Code_JEDEC: MS-012-AC; ComponentLink1Description: Manufacturer URL; ComponentLink1URL: http://www.analog.com/en/index.html; ComponentLink2Description: Datasheet; ComponentLink2URL: http://www.analog.com/static/imported-files/data_sheets/DAC08.pdf; ComponentLink3Description: Package Specification; ComponentLink3URL: http://www.analog.com/static/imported-files/packages/PKG_PDF/SOIC_Narrow%20(R)/R_16.pdf; ComponentLink4Description: Product URL; ComponentLink4URL: http://www.analog.com/en/digital-to-analog-converters/da-converters/dac08/products/product.html
footprint R-16_N (SOIC, 16-Leads, Body 9.9x3.9mm, Pitch 1.27mm, IPC Medium Density)
footprint R-16_L (SOIC, 16-Leads, Body 9.9x3.9mm, Pitch 1.27mm, IPC High Density)
footprint R-16_M (SOIC, 16-Leads, Body 9.9x3.9mm, Pitch 1.27mm, IPC Low Density)
pins: 1 V+ (power), 2 VREF(+) (in), 3 VREF(-) (in), 4 COMP, 5 VLC (in), 6 ~{IOUT}, 7 V- (power), 8 IOUT (out), 9 B1(MSB) (in), 10 B2 (in), 11 B3 (in), 12 B4 (in), 13 B5 (in), 14 B6 (in), 15 B7 (in), 16 B8(LSB) (in)

## DAC08ESZ
designator U?
Single 8-Bit Multiplying Digital-to-Analog Converter with Universal Digital Logic Interface, 0 to +70 degC, R-16, Pb-Free, Tube; Generic Part Number: DAC08; Manufacturer: Analog Devices; PartNumber: DAC08ESZ; # DAC Outputs: 1; Max V+: 18V; Op Pwr Diss: 33mW; Resolution (Bits): 8; Settling Time: 85ns; Single Supply: No; DatasheetVersion: Rev.C; PackageVersion: 060606-A; PackageReference: R-16; PackageDescription: 16-Lead Standard Small Outline Package [SOIC_N] Narrow Body; Supplier 1: Digi-Key; Supplier Part Number 1: DAC08ESZ-ND; Supplier 2: Newark; Supplier Part Number 2: 59K7902; Supplier 3: Mouser; Supplier Part Number 3: 584-DAC08ESZ; Packing: Tube; RoHS: Y; Mounting Technology: Surface Mount; Code_JEDEC: MS-012-AC; ComponentLink1Description: Manufacturer URL; ComponentLink1URL: http://www.analog.com/en/index.html; ComponentLink2Description: Datasheet; ComponentLink2URL: http://www.analog.com/static/imported-files/data_sheets/DAC08.pdf; ComponentLink3Description: Package Specification; ComponentLink3URL: http://www.analog.com/static/imported-files/packages/PKG_PDF/SOIC_Narrow%20(R)/R_16.pdf; ComponentLink4Description: Product URL; ComponentLink4URL: http://www.analog.com/en/digital-to-analog-converters/da-converters/dac08/products/product.html
footprint R-16_N (SOIC, 16-Leads, Body 9.9x3.9mm, Pitch 1.27mm, IPC Medium Density)
footprint R-16_L (SOIC, 16-Leads, Body 9.9x3.9mm, Pitch 1.27mm, IPC High Density)
footprint R-16_M (SOIC, 16-Leads, Body 9.9x3.9mm, Pitch 1.27mm, IPC Low Density)
pins: 1 V+ (power), 2 VREF(+) (in), 3 VREF(-) (in), 4 COMP, 5 VLC (in), 6 ~{IOUT}, 7 V- (power), 8 IOUT (out), 9 B1(MSB) (in), 10 B2 (in), 11 B3 (in), 12 B4 (in), 13 B5 (in), 14 B6 (in), 15 B7 (in), 16 B8(LSB) (in)

## DAC08ESZ-REEL
designator U?
Single 8-Bit Multiplying Digital-to-Analog Converter with Universal Digital Logic Interface, 0 to +70 degC, R-16, Pb-Free, Reel; Generic Part Number: DAC08; Manufacturer: Analog Devices; PartNumber: DAC08ESZ-REEL; # DAC Outputs: 1; Max V+: 18V; Op Pwr Diss: 33mW; Resolution (Bits): 8; Settling Time: 85ns; Single Supply: No; DatasheetVersion: Rev.C; PackageVersion: 060606-A; PackageReference: R-16; PackageDescription: 16-Lead Standard Small Outline Package [SOIC_N] Narrow Body; Supplier 1: Digi-Key; Supplier Part Number 1: DAC08ESZ-REEL-ND; Supplier 2: Newark; Supplier Part Number 2: 59K7903; Supplier 3: Mouser; Supplier Part Number 3: 584-DAC08ESZ-R; Packing: Reel; RoHS: Y; Mounting Technology: Surface Mount; Code_JEDEC: MS-012-AC; ComponentLink1Description: Manufacturer URL; ComponentLink1URL: http://www.analog.com/en/index.html; ComponentLink2Description: Datasheet; ComponentLink2URL: http://www.analog.com/static/imported-files/data_sheets/DAC08.pdf; ComponentLink3Description: Package Specification; ComponentLink3URL: http://www.analog.com/static/imported-files/packages/PKG_PDF/SOIC_Narrow%20(R)/R_16.pdf; ComponentLink4Description: Product URL; ComponentLink4URL: http://www.analog.com/en/digital-to-analog-converters/da-converters/dac08/products/product.html
footprint R-16_N (SOIC, 16-Leads, Body 9.9x3.9mm, Pitch 1.27mm, IPC Medium Density)
footprint R-16_L (SOIC, 16-Leads, Body 9.9x3.9mm, Pitch 1.27mm, IPC High Density)
footprint R-16_M (SOIC, 16-Leads, Body 9.9x3.9mm, Pitch 1.27mm, IPC Low Density)
pins: 1 V+ (power), 2 VREF(+) (in), 3 VREF(-) (in), 4 COMP, 5 VLC (in), 6 ~{IOUT}, 7 V- (power), 8 IOUT (out), 9 B1(MSB) (in), 10 B2 (in), 11 B3 (in), 12 B4 (in), 13 B5 (in), 14 B6 (in), 15 B7 (in), 16 B8(LSB) (in)

## DAC08HQ
designator U?
Single 8-Bit Multiplying Digital-to-Analog Converter with Universal Digital Logic Interface, 0 to +70 degC, Q-16, Tube; Generic Part Number: DAC08; Manufacturer: Analog Devices; PartNumber: DAC08HQ; # DAC Outputs: 1; Max V+: 18V; Op Pwr Diss: 33mW; Resolution (Bits): 8; Settling Time: 85ns; Single Supply: No; DatasheetVersion: Rev.C; PackageVersion: 1996; PackageReference: Q-16; PackageDescription: DIP, 16-Pin, Skinny Dual In-line Package, 300mil Wide, Pitch 2.54 mm; Supplier 1: Digi-Key; Supplier Part Number 1: DAC08HQ-ND; Supplier 2: Newark; Supplier Part Number 2: 05F7959; Supplier 3: Mouser; Supplier Part Number 3: 584-DAC08HQ; Packing: Tube; RoHS: N; Mounting Technology: Through Hole; ComponentLink1Description: Manufacturer URL; ComponentLink1URL: http://www.analog.com/en/index.html; ComponentLink2Description: Datasheet; ComponentLink2URL: http://www.analog.com/static/imported-files/data_sheets/DAC08.pdf; ComponentLink3Description: Package Specification; ComponentLink3URL: http://www.analog.com/static/imported-files/packages/54083157002221Q_16.pdf; ComponentLink4Description: Product URL; ComponentLink4URL: http://www.analog.com/en/digital-to-analog-converters/da-converters/dac08/products/product.html
footprint Q-16 (DIP, 16-Leads, Row Spacing 7.62mm, Pitch 2.54mm, Body 20.07x6.73mm)
pins: 1 VLC (in), 2 ~{IOUT}, 3 V- (power), 4 IOUT (out), 5 (MSB) B1 (in), 6 B2 (in), 7 B3 (in), 8 B4 (in), 9 B5 (in), 10 B6 (in), 11 B7 (in), 12 B8 (LSB) (in), 13 V+ (power), 14 VREF (+) (in), 15 VREF (-) (in), 16 COMP

## DAC08Q
designator U?
Single 8-Bit Multiplying Digital-to-Analog Converter with Universal Digital Logic Interface, -55 to +125 degC, Q-16, Tube; Generic Part Number: DAC08; Manufacturer: Analog Devices; PartNumber: DAC08Q; # DAC Outputs: 1; Max V+: 18V; Op Pwr Diss: 33mW; Resolution (Bits): 8; Settling Time: 85ns; Single Supply: No; DatasheetVersion: Rev.C; PackageVersion: 1996; PackageReference: Q-16; PackageDescription: DIP, 16-Pin, Skinny Dual In-line Package, 300mil Wide, Pitch 2.54 mm; Supplier 1: Digi-Key; Supplier Part Number 1: DAC08Q-ND; Supplier 2: Newark; Supplier Part Number 2: 09B8112; Supplier 3: Mouser; Supplier Part Number 3: 584-DAC08Q; Packing: Tube; RoHS: N; Mounting Technology: Through Hole; ComponentLink1Description: Manufacturer URL; ComponentLink1URL: http://www.analog.com/en/index.html; ComponentLink2Description: Datasheet; ComponentLink2URL: http://www.analog.com/static/imported-files/data_sheets/DAC08.pdf; ComponentLink3Description: Package Specification; ComponentLink3URL: http://www.analog.com/static/imported-files/packages/54083157002221Q_16.pdf; ComponentLink4Description: Product URL; ComponentLink4URL: http://www.analog.com/en/digital-to-analog-converters/da-converters/dac08/products/product.html
footprint Q-16 (DIP, 16-Leads, Row Spacing 7.62mm, Pitch 2.54mm, Body 20.07x6.73mm)
pins: 1 VLC (in), 2 ~{IOUT}, 3 V- (power), 4 IOUT (out), 5 (MSB) B1 (in), 6 B2 (in), 7 B3 (in), 8 B4 (in), 9 B5 (in), 10 B6 (in), 11 B7 (in), 12 B8 (LSB) (in), 13 V+ (power), 14 VREF (+) (in), 15 VREF (-) (in), 16 COMP

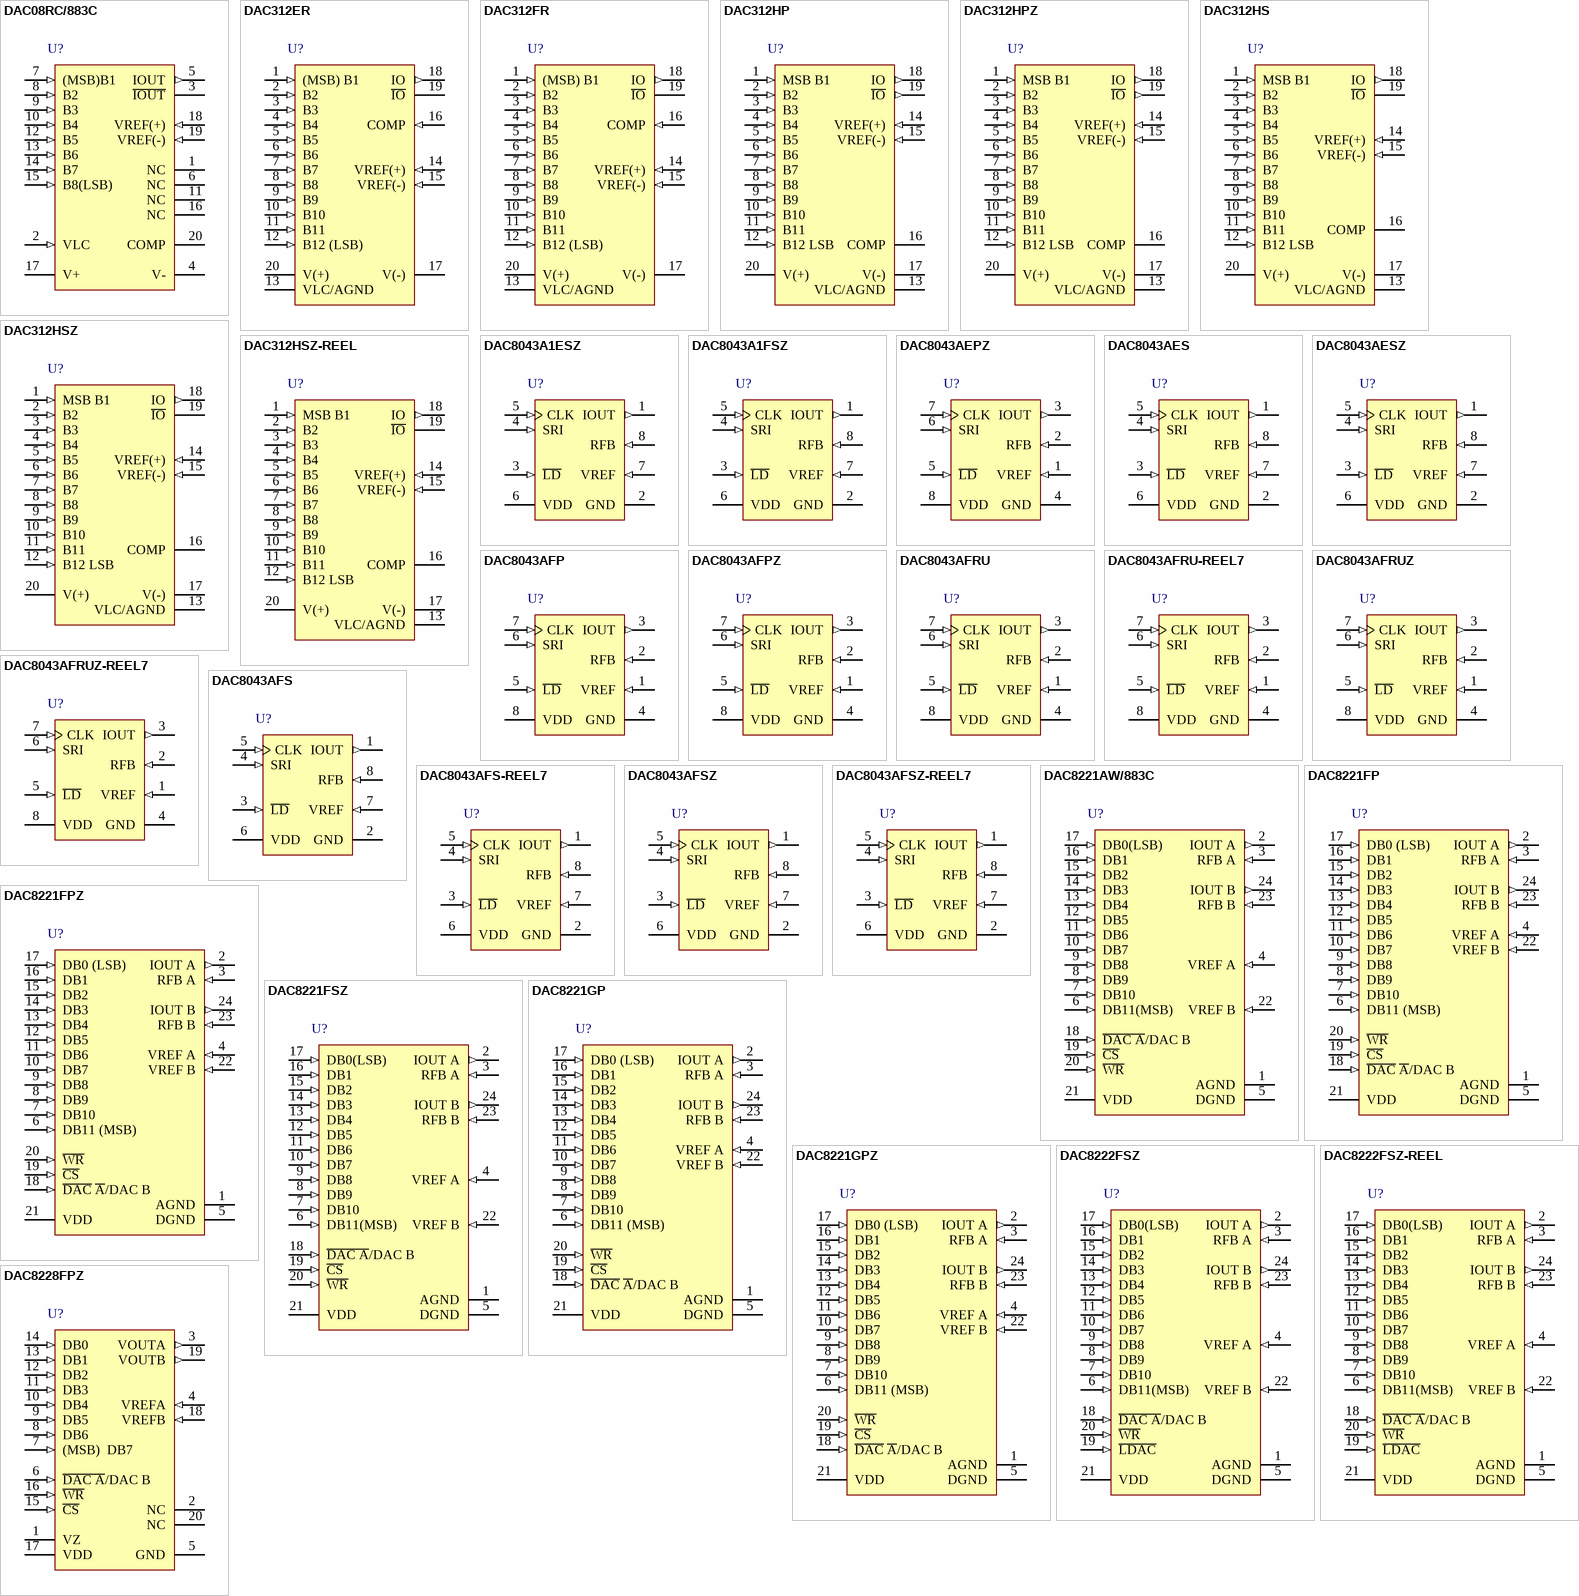
[diagram p110: symbols DAC08RC/883C to DAC8228FPZ]

## DAC08RC/883C
designator U?
Single 8-Bit Multiplying Digital-to-Analog Converter with Universal Digital Logic Interface, -55 to +125 degC, E-20-1, Tube; Generic Part Number: DAC08; Manufacturer: Analog Devices; PartNumber: DAC08RC/883C; # DAC Outputs: 1; Max V+: 18V; Op Pwr Diss: 33mW; Resolution (Bits): 8; Settling Time: 85ns; Single Supply: No; DatasheetVersion: Rev.C; PackageVersion: 022106-A; PackageReference: E-20-1; PackageDescription: 20-Terminal Ceramic Leadless Chip Carrier [LCC]; Supplier 1: Mouser; Supplier Part Number 1: 584-DAC08RC883C; Packing: Tube; RoHS: N; Mounting Technology: Surface Mount; ComponentLink1Description: Manufacturer URL; ComponentLink1URL: http://www.analog.com/en/index.html; ComponentLink2Description: Datasheet; ComponentLink2URL: http://www.analog.com/static/imported-files/data_sheets/DAC08.pdf; ComponentLink3Description: Package Specification; ComponentLink3URL: http://www.analog.com/static/imported-files/packages/PKG_PDF/LCC(E)/E_20_1.pdf; ComponentLink4Description: Product URL; ComponentLink4URL: http://www.analog.com/en/digital-to-analog-converters/da-converters/dac08/products/product.html
footprint E-20-1_N (Leadless Chip Carrier, 20-Leads, Body 8.9x8.9mm, Pitch 1.27mm, IPC Medium Density)
footprint E-20-1_L (Leadless Chip Carrier, 20-Leads, Body 8.9x8.9mm, Pitch 1.27mm, IPC High Density)
footprint E-20-1_M (Leadless Chip Carrier, 20-Leads, Body 8.9x8.9mm, Pitch 1.27mm, IPC Low Density)
pins: 1 NC, 2 VLC (in), 3 ~{IOUT}, 4 V- (power), 5 IOUT (out), 6 NC, 7 (MSB)B1 (in), 8 B2 (in), 9 B3 (in), 10 B4 (in), 11 NC, 12 B5 (in), 13 B6 (in), 14 B7 (in), 15 B8(LSB) (in), 16 NC, 17 V+ (power), 18 VREF(+) (in), 19 VREF(-) (in), 20 COMP

## DAC312ER
designator U?
Single 12-Bit High Speed Multiplying Digital-to-Analog Converter, 0 to +70 degC, Q-20, Tube; Generic Part Number: DAC312; Manufacturer: Analog Devices; PartNumber: DAC312ER; # DAC Outputs: 1; Max V+: 18V; Op Pwr Diss: 267mW; Resolution (Bits): 12; Settling Time: 250ns; Single Supply: No; DatasheetVersion: Rev.C; PackageVersion: Dec-2004; PackageReference: Q-20; PackageDescription: 20-Lead Ceramic Dual In-Line Package [CERDIP]; Supplier 1: Digi-Key; Supplier Part Number 1: DAC312ER-ND; Supplier 2: Mouser; Supplier Part Number 2: 584-DAC312ER; Packing: Tube; RoHS: N; Mounting Technology: Through Hole; ComponentLink1Description: Manufacturer URL; ComponentLink1URL: http://www.analog.com/en/index.html; ComponentLink2Description: Datasheet; ComponentLink2URL: http://www.analog.com/static/imported-files/data_sheets/DAC312.pdf; ComponentLink3Description: Package Specification; ComponentLink3URL: http://www.analog.com/static/imported-files/packages/50516416473314Q_20.pdf; ComponentLink4Description: Product URL; ComponentLink4URL: http://www.analog.com/en/digital-to-analog-converters/da-converters/dac312/products/product.html
footprint Q-20 (DIP, 20-Leads, Row Spacing 7.62mm, Pitch 2.54mm, Body 25.9x6.7mm)
pins: 1 (MSB) B1 (in), 2 B2 (in), 3 B3 (in), 4 B4 (in), 5 B5 (in), 6 B6 (in), 7 B7 (in), 8 B8 (in), 9 B9 (in), 10 B10 (in), 11 B11 (in), 12 B12 (LSB) (in), 13 VLC/AGND (power), 14 VREF(+) (in), 15 VREF(-) (in), 16 COMP (in), 17 V(-) (power), 18 IO (out), 19 ~{IO}, 20 V(+) (power)

## DAC312FR
designator U?
Single 12-Bit High Speed Multiplying Digital-to-Analog Converter, -40 to +85 degC, Q-20, Tube; Generic Part Number: DAC312; Manufacturer: Analog Devices; PartNumber: DAC312FR; # DAC Outputs: 1; Max V+: 18V; Op Pwr Diss: 267mW; Resolution (Bits): 12; Settling Time: 250ns; Single Supply: No; DatasheetVersion: Rev.C; PackageVersion: Dec-2004; PackageReference: Q-20; PackageDescription: 20-Lead Ceramic Dual In-Line Package [CERDIP]; Supplier 1: Digi-Key; Supplier Part Number 1: DAC312FR-ND; Supplier 2: Newark; Supplier Part Number 2: 05F7976; Supplier 3: Mouser; Supplier Part Number 3: 584-DAC312FR; Packing: Tube; RoHS: N; Mounting Technology: Through Hole; ComponentLink1Description: Manufacturer URL; ComponentLink1URL: http://www.analog.com/en/index.html; ComponentLink2Description: Datasheet; ComponentLink2URL: http://www.analog.com/static/imported-files/data_sheets/DAC312.pdf; ComponentLink3Description: Package Specification; ComponentLink3URL: http://www.analog.com/static/imported-files/packages/50516416473314Q_20.pdf; ComponentLink4Description: Product URL; ComponentLink4URL: http://www.analog.com/en/digital-to-analog-converters/da-converters/dac312/products/product.html
footprint Q-20 (DIP, 20-Leads, Row Spacing 7.62mm, Pitch 2.54mm, Body 25.9x6.7mm)
pins: 1 (MSB) B1 (in), 2 B2 (in), 3 B3 (in), 4 B4 (in), 5 B5 (in), 6 B6 (in), 7 B7 (in), 8 B8 (in), 9 B9 (in), 10 B10 (in), 11 B11 (in), 12 B12 (LSB) (in), 13 VLC/AGND (power), 14 VREF(+) (in), 15 VREF(-) (in), 16 COMP (in), 17 V(-) (power), 18 IO (out), 19 ~{IO}, 20 V(+) (power)